# Altium schematic symbol library Converter_DCDC.SchLib: 947 symbols (part 5 of 12)
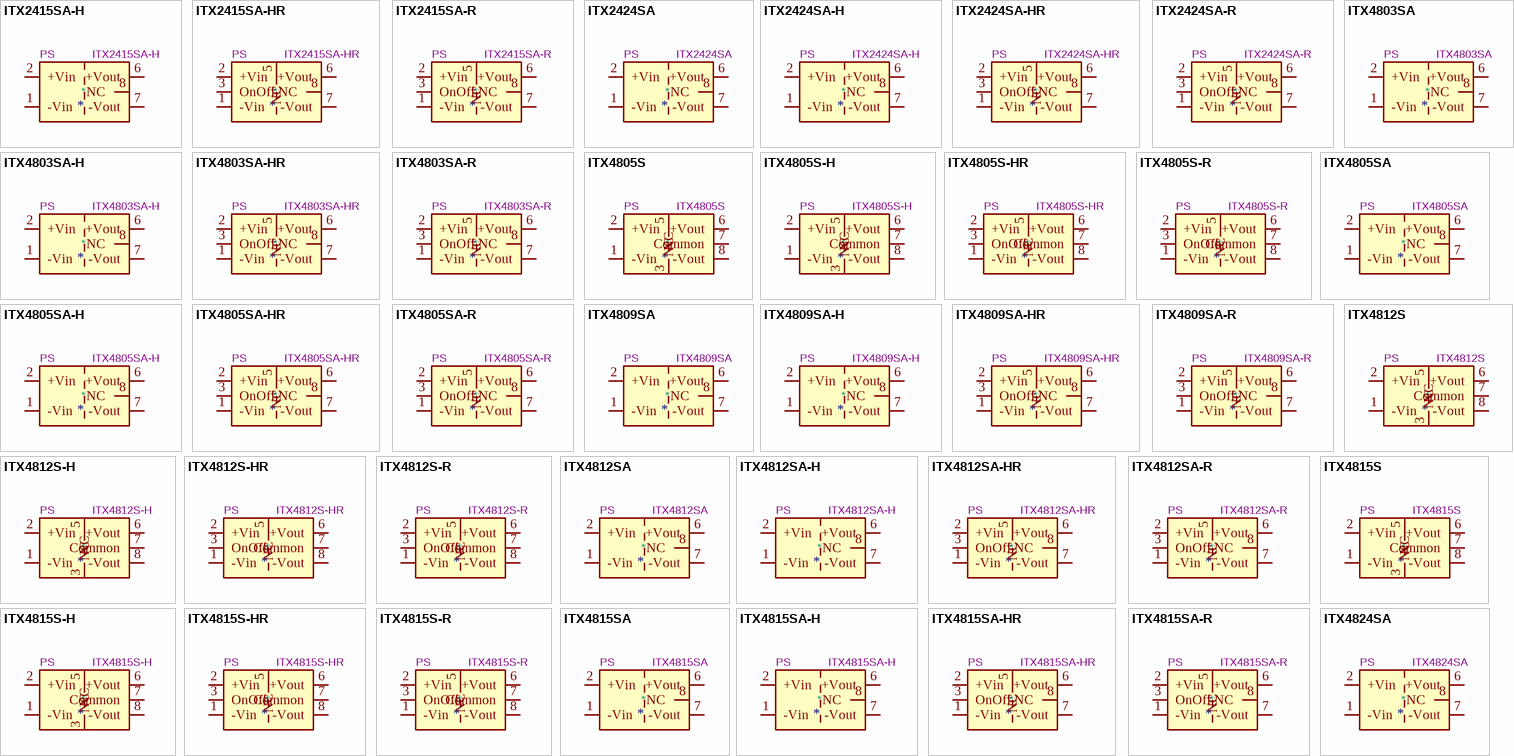
[diagram p27: symbols ITX2415SA-H to ITX4824SA]

## ITX4812SA
designator *  value ITX4812SA  Reference: PS
XP Power 6W, 1000 VDC Isolated DC/DC Converter Module, Fully Regulated Single Output Voltage 12V, ±500mA, 48V Input Voltage, SIP; ki_keywords: XP_POWER DC/DC isolated Converter module; ki_fp_filters: *XP?POWER?ITXxxxxSA*; Footprint: Converter_DCDC:Converter_DCDC_XP_POWER-ITXxxxxSA_THT; Datasheet: https://www.xppower.com/pdfs/SF_ITX.pdf; Description_: XP Power 6W, 1000 VDC Isolated DC/DC Converter Module, Fully Regulated Single Output Voltage 12V, ±500mA, 48V Input Voltage, SIP
pins: 1 -Vin, 2 +Vin, 6 +Vout, 7 -Vout, 8 NC

## ITX4812SA-H
designator *  value ITX4812SA-H  Reference: PS
XP Power 6W, 3000 VDC Isolated DC/DC Converter Module, Fully Regulated Single Output Voltage 12V, ±500mA, 48V Input Voltage, SIP; ki_keywords: XP_POWER DC/DC isolated Converter module; ki_fp_filters: *XP?POWER?ITXxxxxSA*; Footprint: Converter_DCDC:Converter_DCDC_XP_POWER-ITXxxxxSA_THT; Datasheet: https://www.xppower.com/pdfs/SF_ITX.pdf; Description_: XP Power 6W, 3000 VDC Isolated DC/DC Converter Module, Fully Regulated Single Output Voltage 12V, ±500mA, 48V Input Voltage, SIP
pins: 1 -Vin, 2 +Vin, 6 +Vout, 7 -Vout, 8 NC

## ITX4812SA-HR
designator *  value ITX4812SA-HR  Reference: PS
XP Power 6W, 3000 VDC Isolated DC/DC Converter Module, Remote Control, Fully Regulated Single Output Voltage 12V, ±500mA, 48V Input Voltage, SIP; ki_keywords: XP_POWER DC/DC isolated Converter module; ki_fp_filters: *XP?POWER?ITxxxxx*; Footprint: Converter_DCDC:Converter_DCDC_XP_POWER-ITxxxxxS_THT; Datasheet: https://www.xppower.com/pdfs/SF_ITX.pdf; Description_: XP Power 6W, 3000 VDC Isolated DC/DC Converter Module, Remote Control, Fully Regulated Single Output Voltage 12V, ±500mA, 48V Input Voltage, SIP
pins: 1 -Vin, 2 +Vin, 3 OnOff, 5 NC, 6 +Vout, 7 -Vout, 8 NC

## ITX4812SA-R
designator *  value ITX4812SA-R  Reference: PS
XP Power 6W, 1000 VDC Isolated DC/DC Converter Module, Remote Control, Fully Regulated Single Output Voltage 12V, ±500mA, 48V Input Voltage, SIP; ki_keywords: XP_POWER DC/DC isolated Converter module; ki_fp_filters: *XP?POWER?ITxxxxx*; Footprint: Converter_DCDC:Converter_DCDC_XP_POWER-ITxxxxxS_THT; Datasheet: https://www.xppower.com/pdfs/SF_ITX.pdf; Description_: XP Power 6W, 1000 VDC Isolated DC/DC Converter Module, Remote Control, Fully Regulated Single Output Voltage 12V, ±500mA, 48V Input Voltage, SIP
pins: 1 -Vin, 2 +Vin, 3 OnOff, 5 NC, 6 +Vout, 7 -Vout, 8 NC

## ITX4815S
designator *  value ITX4815S  Reference: PS
XP Power 6W, 1000 VDC Isolated DC/DC Converter Module, Fully Regulated Dual Output Voltage ±15V, ±200mA, 48V Input Voltage, SIP; ki_keywords: XP_POWER DC/DC isolated Converter module; ki_fp_filters: *XP?POWER?ITxxxxx*; Footprint: Converter_DCDC:Converter_DCDC_XP_POWER-ITxxxxxS_THT; Datasheet: https://www.xppower.com/pdfs/SF_ITX.pdf; Description_: XP Power 6W, 1000 VDC Isolated DC/DC Converter Module, Fully Regulated Dual Output Voltage ±15V, ±200mA, 48V Input Voltage, SIP
pins: 1 -Vin, 2 +Vin, 3 NC, 5 NC, 6 +Vout, 7 Common, 8 -Vout

## ITX4815S-H
designator *  value ITX4815S-H  Reference: PS
XP Power 6W, 3000 VDC Isolated DC/DC Converter Module, Fully Regulated Dual Output Voltage ±15V, ±200mA, 48V Input Voltage, SIP; ki_keywords: XP_POWER DC/DC isolated Converter module; ki_fp_filters: *XP?POWER?ITxxxxx*; Footprint: Converter_DCDC:Converter_DCDC_XP_POWER-ITxxxxxS_THT; Datasheet: https://www.xppower.com/pdfs/SF_ITX.pdf; Description_: XP Power 6W, 3000 VDC Isolated DC/DC Converter Module, Fully Regulated Dual Output Voltage ±15V, ±200mA, 48V Input Voltage, SIP
pins: 1 -Vin, 2 +Vin, 3 NC, 5 NC, 6 +Vout, 7 Common, 8 -Vout

## ITX4815S-HR
designator *  value ITX4815S-HR  Reference: PS
XP Power 6W, 3000 VDC Isolated DC/DC Converter Module, Remote Control, Fully Regulated Dual Output Voltage ±15V, ±200mA, 48V Input Voltage, SIP; ki_keywords: XP_POWER DC/DC isolated Converter module; ki_fp_filters: *XP?POWER?ITxxxxx*; Footprint: Converter_DCDC:Converter_DCDC_XP_POWER-ITxxxxxS_THT; Datasheet: https://www.xppower.com/pdfs/SF_ITX.pdf; Description_: XP Power 6W, 3000 VDC Isolated DC/DC Converter Module, Remote Control, Fully Regulated Dual Output Voltage ±15V, ±200mA, 48V Input Voltage, SIP
pins: 1 -Vin, 2 +Vin, 3 OnOff, 5 NC, 6 +Vout, 7 Common, 8 -Vout

## ITX4815S-R
designator *  value ITX4815S-R  Reference: PS
XP Power 6W, 1000 VDC Isolated DC/DC Converter Module, Remote Control, Fully Regulated Dual Output Voltage ±15V, ±200mA, 48V Input Voltage, SIP; ki_keywords: XP_POWER DC/DC isolated Converter module; ki_fp_filters: *XP?POWER?ITxxxxx*; Footprint: Converter_DCDC:Converter_DCDC_XP_POWER-ITxxxxxS_THT; Datasheet: https://www.xppower.com/pdfs/SF_ITX.pdf; Description_: XP Power 6W, 1000 VDC Isolated DC/DC Converter Module, Remote Control, Fully Regulated Dual Output Voltage ±15V, ±200mA, 48V Input Voltage, SIP
pins: 1 -Vin, 2 +Vin, 3 OnOff, 5 NC, 6 +Vout, 7 Common, 8 -Vout

## ITX4815SA
designator *  value ITX4815SA  Reference: PS
XP Power 6W, 1000 VDC Isolated DC/DC Converter Module, Fully Regulated Single Output Voltage 15V, ±400mA, 48V Input Voltage, SIP; ki_keywords: XP_POWER DC/DC isolated Converter module; ki_fp_filters: *XP?POWER?ITXxxxxSA*; Footprint: Converter_DCDC:Converter_DCDC_XP_POWER-ITXxxxxSA_THT; Datasheet: https://www.xppower.com/pdfs/SF_ITX.pdf; Description_: XP Power 6W, 1000 VDC Isolated DC/DC Converter Module, Fully Regulated Single Output Voltage 15V, ±400mA, 48V Input Voltage, SIP
pins: 1 -Vin, 2 +Vin, 6 +Vout, 7 -Vout, 8 NC

## ITX4815SA-H
designator *  value ITX4815SA-H  Reference: PS
XP Power 6W, 3000 VDC Isolated DC/DC Converter Module, Fully Regulated Single Output Voltage 15V, ±400mA, 48V Input Voltage, SIP; ki_keywords: XP_POWER DC/DC isolated Converter module; ki_fp_filters: *XP?POWER?ITXxxxxSA*; Footprint: Converter_DCDC:Converter_DCDC_XP_POWER-ITXxxxxSA_THT; Datasheet: https://www.xppower.com/pdfs/SF_ITX.pdf; Description_: XP Power 6W, 3000 VDC Isolated DC/DC Converter Module, Fully Regulated Single Output Voltage 15V, ±400mA, 48V Input Voltage, SIP
pins: 1 -Vin, 2 +Vin, 6 +Vout, 7 -Vout, 8 NC

## ITX4815SA-HR
designator *  value ITX4815SA-HR  Reference: PS
XP Power 6W, 3000 VDC Isolated DC/DC Converter Module, Remote Control, Fully Regulated Single Output Voltage 15V, ±400mA, 48V Input Voltage, SIP; ki_keywords: XP_POWER DC/DC isolated Converter module; ki_fp_filters: *XP?POWER?ITxxxxx*; Footprint: Converter_DCDC:Converter_DCDC_XP_POWER-ITxxxxxS_THT; Datasheet: https://www.xppower.com/pdfs/SF_ITX.pdf; Description_: XP Power 6W, 3000 VDC Isolated DC/DC Converter Module, Remote Control, Fully Regulated Single Output Voltage 15V, ±400mA, 48V Input Voltage, SIP
pins: 1 -Vin, 2 +Vin, 3 OnOff, 5 NC, 6 +Vout, 7 -Vout, 8 NC

## ITX4815SA-R
designator *  value ITX4815SA-R  Reference: PS
XP Power 6W, 1000 VDC Isolated DC/DC Converter Module, Remote Control, Fully Regulated Single Output Voltage 15V, ±400mA, 48V Input Voltage, SIP; ki_keywords: XP_POWER DC/DC isolated Converter module; ki_fp_filters: *XP?POWER?ITxxxxx*; Footprint: Converter_DCDC:Converter_DCDC_XP_POWER-ITxxxxxS_THT; Datasheet: https://www.xppower.com/pdfs/SF_ITX.pdf; Description_: XP Power 6W, 1000 VDC Isolated DC/DC Converter Module, Remote Control, Fully Regulated Single Output Voltage 15V, ±400mA, 48V Input Voltage, SIP
pins: 1 -Vin, 2 +Vin, 3 OnOff, 5 NC, 6 +Vout, 7 -Vout, 8 NC

## ITX4824SA
designator *  value ITX4824SA  Reference: PS
XP Power 6W, 1000 VDC Isolated DC/DC Converter Module, Fully Regulated Single Output Voltage 24V, ±250mA, 48V Input Voltage, SIP; ki_keywords: XP_POWER DC/DC isolated Converter module; ki_fp_filters: *XP?POWER?ITXxxxxSA*; Footprint: Converter_DCDC:Converter_DCDC_XP_POWER-ITXxxxxSA_THT; Datasheet: https://www.xppower.com/pdfs/SF_ITX.pdf; Description_: XP Power 6W, 1000 VDC Isolated DC/DC Converter Module, Fully Regulated Single Output Voltage 24V, ±250mA, 48V Input Voltage, SIP
pins: 1 -Vin, 2 +Vin, 6 +Vout, 7 -Vout, 8 NC

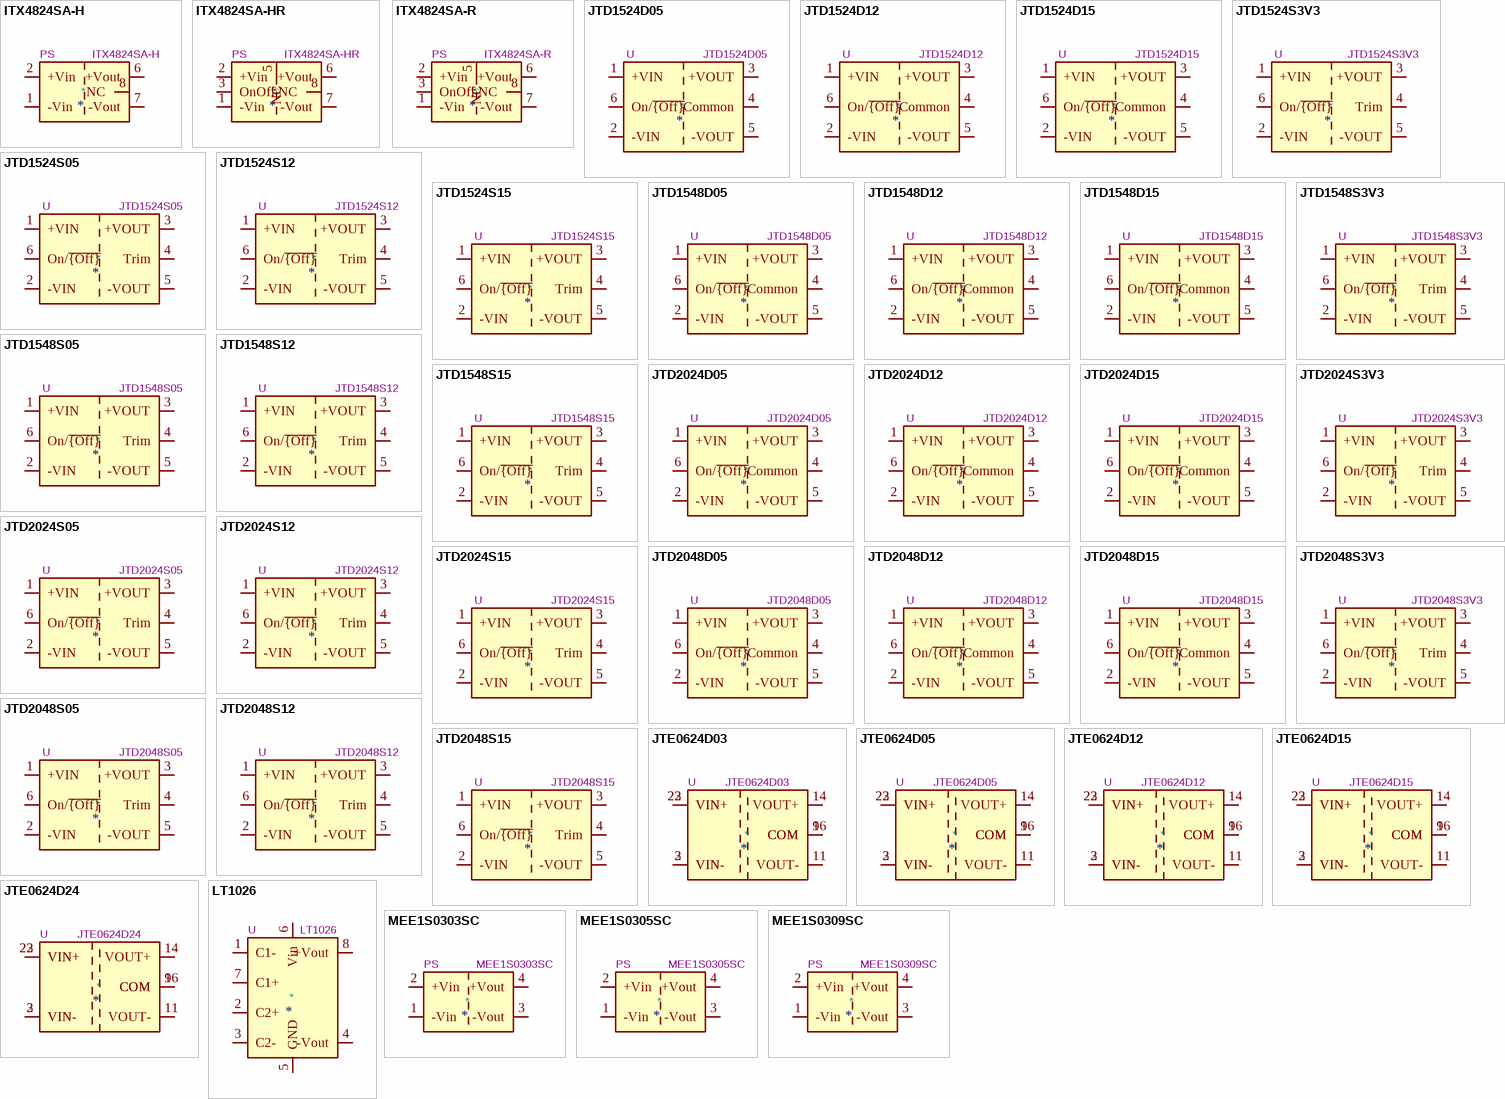
[diagram p9: symbols ITX4824SA-H to MEE1S0309SC]

## ITX4824SA-H
designator *  value ITX4824SA-H  Reference: PS
XP Power 6W, 3000 VDC Isolated DC/DC Converter Module, Fully Regulated Single Output Voltage 24V, ±250mA, 48V Input Voltage, SIP; ki_keywords: XP_POWER DC/DC isolated Converter module; ki_fp_filters: *XP?POWER?ITXxxxxSA*; Footprint: Converter_DCDC:Converter_DCDC_XP_POWER-ITXxxxxSA_THT; Datasheet: https://www.xppower.com/pdfs/SF_ITX.pdf; Description_: XP Power 6W, 3000 VDC Isolated DC/DC Converter Module, Fully Regulated Single Output Voltage 24V, ±250mA, 48V Input Voltage, SIP
pins: 1 -Vin, 2 +Vin, 6 +Vout, 7 -Vout, 8 NC

## ITX4824SA-HR
designator *  value ITX4824SA-HR  Reference: PS
XP Power 6W, 3000 VDC Isolated DC/DC Converter Module, Remote Control, Fully Regulated Single Output Voltage 24V, ±250mA, 48V Input Voltage, SIP; ki_keywords: XP_POWER DC/DC isolated Converter module; ki_fp_filters: *XP?POWER?ITxxxxx*; Footprint: Converter_DCDC:Converter_DCDC_XP_POWER-ITxxxxxS_THT; Datasheet: https://www.xppower.com/pdfs/SF_ITX.pdf; Description_: XP Power 6W, 3000 VDC Isolated DC/DC Converter Module, Remote Control, Fully Regulated Single Output Voltage 24V, ±250mA, 48V Input Voltage, SIP
pins: 1 -Vin, 2 +Vin, 3 OnOff, 5 NC, 6 +Vout, 7 -Vout, 8 NC

## ITX4824SA-R
designator *  value ITX4824SA-R  Reference: PS
XP Power 6W, 1000 VDC Isolated DC/DC Converter Module, Remote Control, Fully Regulated Single Output Voltage 24V, ±250mA, 48V Input Voltage, SIP; ki_keywords: XP_POWER DC/DC isolated Converter module; ki_fp_filters: *XP?POWER?ITxxxxx*; Footprint: Converter_DCDC:Converter_DCDC_XP_POWER-ITxxxxxS_THT; Datasheet: https://www.xppower.com/pdfs/SF_ITX.pdf; Description_: XP Power 6W, 1000 VDC Isolated DC/DC Converter Module, Remote Control, Fully Regulated Single Output Voltage 24V, ±250mA, 48V Input Voltage, SIP
pins: 1 -Vin, 2 +Vin, 3 OnOff, 5 NC, 6 +Vout, 7 -Vout, 8 NC

## JTD1524D05
designator *  value JTD1524D05  Reference: U
Isolated 15W 4:1 input DC/DC converter module, 9-36V input voltage, ±5V output voltage, DIP; ki_keywords: isolated isolation dc-dc converter step-down dual; ki_fp_filters: Converter*DCDC*XP?POWER*JTDxxxxxxx*; Footprint: Converter_DCDC:Converter_DCDC_XP_POWER_JTDxxxxxxx_THT; Datasheet: https://www.xppower.com/portals/0/pdfs/SF_JTD15.pdf; Description_: Isolated 15W 4:1 input DC/DC converter module, 9-36V input voltage, ±5V output voltage, DIP
pins: 1 +VIN, 2 -VIN, 3 +VOUT, 4 Common, 5 -VOUT, 6 On/~{{Off}}

## JTD1524D12
designator *  value JTD1524D12  Reference: U
Isolated 15W 4:1 input DC/DC converter module, 9-36V input voltage, ±12V output voltage, DIP; ki_keywords: isolated isolation dc-dc converter step-down dual; ki_fp_filters: Converter*DCDC*XP?POWER*JTDxxxxxxx*; Footprint: Converter_DCDC:Converter_DCDC_XP_POWER_JTDxxxxxxx_THT; Datasheet: https://www.xppower.com/portals/0/pdfs/SF_JTD15.pdf; Description_: Isolated 15W 4:1 input DC/DC converter module, 9-36V input voltage, ±12V output voltage, DIP
pins: 1 +VIN, 2 -VIN, 3 +VOUT, 4 Common, 5 -VOUT, 6 On/~{{Off}}

## JTD1524D15
designator *  value JTD1524D15  Reference: U
Isolated 15W 4:1 input DC/DC converter module, 9-36V input voltage, ±15V output voltage, DIP; ki_keywords: isolated isolation dc-dc converter step-down dual; ki_fp_filters: Converter*DCDC*XP?POWER*JTDxxxxxxx*; Footprint: Converter_DCDC:Converter_DCDC_XP_POWER_JTDxxxxxxx_THT; Datasheet: https://www.xppower.com/portals/0/pdfs/SF_JTD15.pdf; Description_: Isolated 15W 4:1 input DC/DC converter module, 9-36V input voltage, ±15V output voltage, DIP
pins: 1 +VIN, 2 -VIN, 3 +VOUT, 4 Common, 5 -VOUT, 6 On/~{{Off}}

## JTD1524S3V3
designator *  value JTD1524S3V3  Reference: U
Isolated 15W 4:1 input DC/DC converter module, 9-36V input voltage, 3.3V output voltage, DIP; ki_keywords: isolated isolation dc-dc converter step-down; ki_fp_filters: Converter*DCDC*XP?POWER*JTDxxxxxxx*; Footprint: Converter_DCDC:Converter_DCDC_XP_POWER_JTDxxxxxxx_THT; Datasheet: https://www.xppower.com/portals/0/pdfs/SF_JTD15.pdf; Description_: Isolated 15W 4:1 input DC/DC converter module, 9-36V input voltage, 3.3V output voltage, DIP
pins: 1 +VIN, 2 -VIN, 3 +VOUT, 4 Trim, 5 -VOUT, 6 On/~{{Off}}

## JTD1524S05
designator *  value JTD1524S05  Reference: U
Isolated 15W 4:1 input DC/DC converter module, 9-36V input voltage, 5V output voltage, DIP; ki_keywords: isolated isolation dc-dc converter step-down; ki_fp_filters: Converter*DCDC*XP?POWER*JTDxxxxxxx*; Footprint: Converter_DCDC:Converter_DCDC_XP_POWER_JTDxxxxxxx_THT; Datasheet: https://www.xppower.com/portals/0/pdfs/SF_JTD15.pdf; Description_: Isolated 15W 4:1 input DC/DC converter module, 9-36V input voltage, 5V output voltage, DIP
pins: 1 +VIN, 2 -VIN, 3 +VOUT, 4 Trim, 5 -VOUT, 6 On/~{{Off}}

## JTD1524S12
designator *  value JTD1524S12  Reference: U
Isolated 15W 4:1 input DC/DC converter module, 9-36V input voltage, 12V output voltage, DIP; ki_keywords: isolated isolation dc-dc converter step-down; ki_fp_filters: Converter*DCDC*XP?POWER*JTDxxxxxxx*; Footprint: Converter_DCDC:Converter_DCDC_XP_POWER_JTDxxxxxxx_THT; Datasheet: https://www.xppower.com/portals/0/pdfs/SF_JTD15.pdf; Description_: Isolated 15W 4:1 input DC/DC converter module, 9-36V input voltage, 12V output voltage, DIP
pins: 1 +VIN, 2 -VIN, 3 +VOUT, 4 Trim, 5 -VOUT, 6 On/~{{Off}}

## JTD1524S15
designator *  value JTD1524S15  Reference: U
Isolated 15W 4:1 input DC/DC converter module, 9-36V input voltage, 15V output voltage, DIP; ki_keywords: isolated isolation dc-dc converter step-down; ki_fp_filters: Converter*DCDC*XP?POWER*JTDxxxxxxx*; Footprint: Converter_DCDC:Converter_DCDC_XP_POWER_JTDxxxxxxx_THT; Datasheet: https://www.xppower.com/portals/0/pdfs/SF_JTD15.pdf; Description_: Isolated 15W 4:1 input DC/DC converter module, 9-36V input voltage, 15V output voltage, DIP
pins: 1 +VIN, 2 -VIN, 3 +VOUT, 4 Trim, 5 -VOUT, 6 On/~{{Off}}

## JTD1548D05
designator *  value JTD1548D05  Reference: U
Isolated 15W 4:1 input DC/DC converter module, 18-75V input voltage, ±5V output voltage, DIP; ki_keywords: isolated isolation dc-dc converter step-down dual; ki_fp_filters: Converter*DCDC*XP?POWER*JTDxxxxxxx*; Footprint: Converter_DCDC:Converter_DCDC_XP_POWER_JTDxxxxxxx_THT; Datasheet: https://www.xppower.com/portals/0/pdfs/SF_JTD15.pdf; Description_: Isolated 15W 4:1 input DC/DC converter module, 18-75V input voltage, ±5V output voltage, DIP
pins: 1 +VIN, 2 -VIN, 3 +VOUT, 4 Common, 5 -VOUT, 6 On/~{{Off}}

## JTD1548D12
designator *  value JTD1548D12  Reference: U
Isolated 15W 4:1 input DC/DC converter module, 18-75V input voltage, ±12V output voltage, DIP; ki_keywords: isolated isolation dc-dc converter step-down dual; ki_fp_filters: Converter*DCDC*XP?POWER*JTDxxxxxxx*; Footprint: Converter_DCDC:Converter_DCDC_XP_POWER_JTDxxxxxxx_THT; Datasheet: https://www.xppower.com/portals/0/pdfs/SF_JTD15.pdf; Description_: Isolated 15W 4:1 input DC/DC converter module, 18-75V input voltage, ±12V output voltage, DIP
pins: 1 +VIN, 2 -VIN, 3 +VOUT, 4 Common, 5 -VOUT, 6 On/~{{Off}}

## JTD1548D15
designator *  value JTD1548D15  Reference: U
Isolated 15W 4:1 input DC/DC converter module, 18-75V input voltage, ±15V output voltage, DIP; ki_keywords: isolated isolation dc-dc converter step-down dual; ki_fp_filters: Converter*DCDC*XP?POWER*JTDxxxxxxx*; Footprint: Converter_DCDC:Converter_DCDC_XP_POWER_JTDxxxxxxx_THT; Datasheet: https://www.xppower.com/portals/0/pdfs/SF_JTD15.pdf; Description_: Isolated 15W 4:1 input DC/DC converter module, 18-75V input voltage, ±15V output voltage, DIP
pins: 1 +VIN, 2 -VIN, 3 +VOUT, 4 Common, 5 -VOUT, 6 On/~{{Off}}

## JTD1548S3V3
designator *  value JTD1548S3V3  Reference: U
Isolated 15W 4:1 input DC/DC converter module, 18-75V input voltage, 3.3V output voltage, DIP; ki_keywords: isolated isolation dc-dc converter step-down; ki_fp_filters: Converter*DCDC*XP?POWER*JTDxxxxxxx*; Footprint: Converter_DCDC:Converter_DCDC_XP_POWER_JTDxxxxxxx_THT; Datasheet: https://www.xppower.com/portals/0/pdfs/SF_JTD15.pdf; Description_: Isolated 15W 4:1 input DC/DC converter module, 18-75V input voltage, 3.3V output voltage, DIP
pins: 1 +VIN, 2 -VIN, 3 +VOUT, 4 Trim, 5 -VOUT, 6 On/~{{Off}}

## JTD1548S05
designator *  value JTD1548S05  Reference: U
Isolated 15W 4:1 input DC/DC converter module, 18-75V input voltage, 5V output voltage, DIP; ki_keywords: isolated isolation dc-dc converter step-down; ki_fp_filters: Converter*DCDC*XP?POWER*JTDxxxxxxx*; Footprint: Converter_DCDC:Converter_DCDC_XP_POWER_JTDxxxxxxx_THT; Datasheet: https://www.xppower.com/portals/0/pdfs/SF_JTD15.pdf; Description_: Isolated 15W 4:1 input DC/DC converter module, 18-75V input voltage, 5V output voltage, DIP
pins: 1 +VIN, 2 -VIN, 3 +VOUT, 4 Trim, 5 -VOUT, 6 On/~{{Off}}

## JTD1548S12
designator *  value JTD1548S12  Reference: U
Isolated 15W 4:1 input DC/DC converter module, 18-75V input voltage, 12V output voltage, DIP; ki_keywords: isolated isolation dc-dc converter step-down; ki_fp_filters: Converter*DCDC*XP?POWER*JTDxxxxxxx*; Footprint: Converter_DCDC:Converter_DCDC_XP_POWER_JTDxxxxxxx_THT; Datasheet: https://www.xppower.com/portals/0/pdfs/SF_JTD15.pdf; Description_: Isolated 15W 4:1 input DC/DC converter module, 18-75V input voltage, 12V output voltage, DIP
pins: 1 +VIN, 2 -VIN, 3 +VOUT, 4 Trim, 5 -VOUT, 6 On/~{{Off}}

## JTD1548S15
designator *  value JTD1548S15  Reference: U
Isolated 15W 4:1 input DC/DC converter module, 18-75V input voltage, 15V output voltage, DIP; ki_keywords: isolated isolation dc-dc converter step-down; ki_fp_filters: Converter*DCDC*XP?POWER*JTDxxxxxxx*; Footprint: Converter_DCDC:Converter_DCDC_XP_POWER_JTDxxxxxxx_THT; Datasheet: https://www.xppower.com/portals/0/pdfs/SF_JTD15.pdf; Description_: Isolated 15W 4:1 input DC/DC converter module, 18-75V input voltage, 15V output voltage, DIP
pins: 1 +VIN, 2 -VIN, 3 +VOUT, 4 Trim, 5 -VOUT, 6 On/~{{Off}}

## JTD2024D05
designator *  value JTD2024D05  Reference: U
Isolated 20W 4:1 input DC/DC converter module, 9-36V input voltage, ±5V output voltage, DIP; ki_keywords: isolated isolation dc-dc converter step-down dual; ki_fp_filters: Converter*DCDC*XP?POWER*JTDxxxxxxx*; Footprint: Converter_DCDC:Converter_DCDC_XP_POWER_JTDxxxxxxx_THT; Datasheet: https://www.xppower.com/portals/0/pdfs/SF_JTD20.pdf; Description_: Isolated 20W 4:1 input DC/DC converter module, 9-36V input voltage, ±5V output voltage, DIP
pins: 1 +VIN, 2 -VIN, 3 +VOUT, 4 Common, 5 -VOUT, 6 On/~{{Off}}

## JTD2024D12
designator *  value JTD2024D12  Reference: U
Isolated 20W 4:1 input DC/DC converter module, 9-36V input voltage, ±12V output voltage, DIP; ki_keywords: isolated isolation dc-dc converter step-down dual; ki_fp_filters: Converter*DCDC*XP?POWER*JTDxxxxxxx*; Footprint: Converter_DCDC:Converter_DCDC_XP_POWER_JTDxxxxxxx_THT; Datasheet: https://www.xppower.com/portals/0/pdfs/SF_JTD20.pdf; Description_: Isolated 20W 4:1 input DC/DC converter module, 9-36V input voltage, ±12V output voltage, DIP
pins: 1 +VIN, 2 -VIN, 3 +VOUT, 4 Common, 5 -VOUT, 6 On/~{{Off}}

## JTD2024D15
designator *  value JTD2024D15  Reference: U
Isolated 20W 4:1 input DC/DC converter module, 9-36V input voltage, ±15V output voltage, DIP; ki_keywords: isolated isolation dc-dc converter step-down dual; ki_fp_filters: Converter*DCDC*XP?POWER*JTDxxxxxxx*; Footprint: Converter_DCDC:Converter_DCDC_XP_POWER_JTDxxxxxxx_THT; Datasheet: https://www.xppower.com/portals/0/pdfs/SF_JTD20.pdf; Description_: Isolated 20W 4:1 input DC/DC converter module, 9-36V input voltage, ±15V output voltage, DIP
pins: 1 +VIN, 2 -VIN, 3 +VOUT, 4 Common, 5 -VOUT, 6 On/~{{Off}}

## JTD2024S3V3
designator *  value JTD2024S3V3  Reference: U
Isolated 20W 4:1 input DC/DC converter module, 9-36V input voltage, 3.3V output voltage, DIP; ki_keywords: isolated isolation dc-dc converter step-down; ki_fp_filters: Converter*DCDC*XP?POWER*JTDxxxxxxx*; Footprint: Converter_DCDC:Converter_DCDC_XP_POWER_JTDxxxxxxx_THT; Datasheet: https://www.xppower.com/portals/0/pdfs/SF_JTD20.pdf; Description_: Isolated 20W 4:1 input DC/DC converter module, 9-36V input voltage, 3.3V output voltage, DIP
pins: 1 +VIN, 2 -VIN, 3 +VOUT, 4 Trim, 5 -VOUT, 6 On/~{{Off}}

## JTD2024S05
designator *  value JTD2024S05  Reference: U
Isolated 20W 4:1 input DC/DC converter module, 9-36V input voltage, 5V output voltage, DIP; ki_keywords: isolated isolation dc-dc converter step-down; ki_fp_filters: Converter*DCDC*XP?POWER*JTDxxxxxxx*; Footprint: Converter_DCDC:Converter_DCDC_XP_POWER_JTDxxxxxxx_THT; Datasheet: https://www.xppower.com/portals/0/pdfs/SF_JTD20.pdf; Description_: Isolated 20W 4:1 input DC/DC converter module, 9-36V input voltage, 5V output voltage, DIP
pins: 1 +VIN, 2 -VIN, 3 +VOUT, 4 Trim, 5 -VOUT, 6 On/~{{Off}}

## JTD2024S12
designator *  value JTD2024S12  Reference: U
Isolated 20W 4:1 input DC/DC converter module, 9-36V input voltage, 12V output voltage, DIP; ki_keywords: isolated isolation dc-dc converter step-down; ki_fp_filters: Converter*DCDC*XP?POWER*JTDxxxxxxx*; Footprint: Converter_DCDC:Converter_DCDC_XP_POWER_JTDxxxxxxx_THT; Datasheet: https://www.xppower.com/portals/0/pdfs/SF_JTD20.pdf; Description_: Isolated 20W 4:1 input DC/DC converter module, 9-36V input voltage, 12V output voltage, DIP
pins: 1 +VIN, 2 -VIN, 3 +VOUT, 4 Trim, 5 -VOUT, 6 On/~{{Off}}

## JTD2024S15
designator *  value JTD2024S15  Reference: U
Isolated 20W 4:1 input DC/DC converter module, 9-36V input voltage, 15V output voltage, DIP; ki_keywords: isolated isolation dc-dc converter step-down; ki_fp_filters: Converter*DCDC*XP?POWER*JTDxxxxxxx*; Footprint: Converter_DCDC:Converter_DCDC_XP_POWER_JTDxxxxxxx_THT; Datasheet: https://www.xppower.com/portals/0/pdfs/SF_JTD20.pdf; Description_: Isolated 20W 4:1 input DC/DC converter module, 9-36V input voltage, 15V output voltage, DIP
pins: 1 +VIN, 2 -VIN, 3 +VOUT, 4 Trim, 5 -VOUT, 6 On/~{{Off}}

## JTD2048D05
designator *  value JTD2048D05  Reference: U
Isolated 20W 4:1 input DC/DC converter module, 18-75V input voltage, ±5V output voltage, DIP; ki_keywords: isolated isolation dc-dc converter step-down dual; ki_fp_filters: Converter*DCDC*XP?POWER*JTDxxxxxxx*; Footprint: Converter_DCDC:Converter_DCDC_XP_POWER_JTDxxxxxxx_THT; Datasheet: https://www.xppower.com/portals/0/pdfs/SF_JTD20.pdf; Description_: Isolated 20W 4:1 input DC/DC converter module, 18-75V input voltage, ±5V output voltage, DIP
pins: 1 +VIN, 2 -VIN, 3 +VOUT, 4 Common, 5 -VOUT, 6 On/~{{Off}}

## JTD2048D12
designator *  value JTD2048D12  Reference: U
Isolated 20W 4:1 input DC/DC converter module, 18-75V input voltage, ±12V output voltage, DIP; ki_keywords: isolated isolation dc-dc converter step-down dual; ki_fp_filters: Converter*DCDC*XP?POWER*JTDxxxxxxx*; Footprint: Converter_DCDC:Converter_DCDC_XP_POWER_JTDxxxxxxx_THT; Datasheet: https://www.xppower.com/portals/0/pdfs/SF_JTD20.pdf; Description_: Isolated 20W 4:1 input DC/DC converter module, 18-75V input voltage, ±12V output voltage, DIP
pins: 1 +VIN, 2 -VIN, 3 +VOUT, 4 Common, 5 -VOUT, 6 On/~{{Off}}

## JTD2048D15
designator *  value JTD2048D15  Reference: U
Isolated 20W 4:1 input DC/DC converter module, 18-75V input voltage, ±15V output voltage, DIP; ki_keywords: isolated isolation dc-dc converter step-down dual; ki_fp_filters: Converter*DCDC*XP?POWER*JTDxxxxxxx*; Footprint: Converter_DCDC:Converter_DCDC_XP_POWER_JTDxxxxxxx_THT; Datasheet: https://www.xppower.com/portals/0/pdfs/SF_JTD20.pdf; Description_: Isolated 20W 4:1 input DC/DC converter module, 18-75V input voltage, ±15V output voltage, DIP
pins: 1 +VIN, 2 -VIN, 3 +VOUT, 4 Common, 5 -VOUT, 6 On/~{{Off}}

## JTD2048S3V3
designator *  value JTD2048S3V3  Reference: U
Isolated 20W 4:1 input DC/DC converter module, 18-75V input voltage, 3.3V output voltage, DIP; ki_keywords: isolated isolation dc-dc converter step-down; ki_fp_filters: Converter*DCDC*XP?POWER*JTDxxxxxxx*; Footprint: Converter_DCDC:Converter_DCDC_XP_POWER_JTDxxxxxxx_THT; Datasheet: https://www.xppower.com/portals/0/pdfs/SF_JTD20.pdf; Description_: Isolated 20W 4:1 input DC/DC converter module, 18-75V input voltage, 3.3V output voltage, DIP
pins: 1 +VIN, 2 -VIN, 3 +VOUT, 4 Trim, 5 -VOUT, 6 On/~{{Off}}

## JTD2048S05
designator *  value JTD2048S05  Reference: U
Isolated 20W 4:1 input DC/DC converter module, 18-75V input voltage, 5V output voltage, DIP; ki_keywords: isolated isolation dc-dc converter step-down; ki_fp_filters: Converter*DCDC*XP?POWER*JTDxxxxxxx*; Footprint: Converter_DCDC:Converter_DCDC_XP_POWER_JTDxxxxxxx_THT; Datasheet: https://www.xppower.com/portals/0/pdfs/SF_JTD20.pdf; Description_: Isolated 20W 4:1 input DC/DC converter module, 18-75V input voltage, 5V output voltage, DIP
pins: 1 +VIN, 2 -VIN, 3 +VOUT, 4 Trim, 5 -VOUT, 6 On/~{{Off}}

## JTD2048S12
designator *  value JTD2048S12  Reference: U
Isolated 20W 4:1 input DC/DC converter module, 18-75V input voltage, 12V output voltage, DIP; ki_keywords: isolated isolation dc-dc converter step-down; ki_fp_filters: Converter*DCDC*XP?POWER*JTDxxxxxxx*; Footprint: Converter_DCDC:Converter_DCDC_XP_POWER_JTDxxxxxxx_THT; Datasheet: https://www.xppower.com/portals/0/pdfs/SF_JTD20.pdf; Description_: Isolated 20W 4:1 input DC/DC converter module, 18-75V input voltage, 12V output voltage, DIP
pins: 1 +VIN, 2 -VIN, 3 +VOUT, 4 Trim, 5 -VOUT, 6 On/~{{Off}}

## JTD2048S15
designator *  value JTD2048S15  Reference: U
Isolated 20W 4:1 input DC/DC converter module, 18-75V input voltage, 15V output voltage, DIP; ki_keywords: isolated isolation dc-dc converter step-down; ki_fp_filters: Converter*DCDC*XP?POWER*JTDxxxxxxx*; Footprint: Converter_DCDC:Converter_DCDC_XP_POWER_JTDxxxxxxx_THT; Datasheet: https://www.xppower.com/portals/0/pdfs/SF_JTD20.pdf; Description_: Isolated 20W 4:1 input DC/DC converter module, 18-75V input voltage, 15V output voltage, DIP
pins: 1 +VIN, 2 -VIN, 3 +VOUT, 4 Trim, 5 -VOUT, 6 On/~{{Off}}

## JTE0624D03
designator *  value JTE0624D03  Reference: U
XP Power 6W Isolated DC/DC Converter Module, Dual Output Voltage ±3.3V, 9-36V Input Voltage; ki_keywords: XP_POWER isolated DC/DC Converter module; ki_fp_filters: *XP?POWER*JTExxxxDxx*; Footprint: Converter_DCDC:Converter_DCDC_XP_POWER_JTExxxxDxx_THT; Datasheet: https://www.xppower.com/Portals/0/pdfs/SF_JTE06.pdf; Description_: XP Power 6W Isolated DC/DC Converter Module, Dual Output Voltage ±3.3V, 9-36V Input Voltage
pins: 2 VIN-, 3 VIN-, 9 COM, 11 VOUT-, 14 VOUT+, 16 COM, 22 VIN+, 23 VIN+

## JTE0624D05
designator *  value JTE0624D05  Reference: U
XP Power 6W Isolated DC/DC Converter Module, Dual Output Voltage ±5V, 9-36V Input Voltage; ki_keywords: XP_POWER isolated DC/DC Converter module; ki_fp_filters: *XP?POWER*JTExxxxDxx*; Footprint: Converter_DCDC:Converter_DCDC_XP_POWER_JTExxxxDxx_THT; Datasheet: https://www.xppower.com/Portals/0/pdfs/SF_JTE06.pdf; Description_: XP Power 6W Isolated DC/DC Converter Module, Dual Output Voltage ±5V, 9-36V Input Voltage
pins: 2 VIN-, 3 VIN-, 9 COM, 11 VOUT-, 14 VOUT+, 16 COM, 22 VIN+, 23 VIN+

## JTE0624D12
designator *  value JTE0624D12  Reference: U
XP Power 6W Isolated DC/DC Converter Module, Dual Output Voltage ±12V, 9-36V Input Voltage; ki_keywords: XP_POWER isolated DC/DC Converter module; ki_fp_filters: *XP?POWER*JTExxxxDxx*; Footprint: Converter_DCDC:Converter_DCDC_XP_POWER_JTExxxxDxx_THT; Datasheet: https://www.xppower.com/Portals/0/pdfs/SF_JTE06.pdf; Description_: XP Power 6W Isolated DC/DC Converter Module, Dual Output Voltage ±12V, 9-36V Input Voltage
pins: 2 VIN-, 3 VIN-, 9 COM, 11 VOUT-, 14 VOUT+, 16 COM, 22 VIN+, 23 VIN+

## JTE0624D15
designator *  value JTE0624D15  Reference: U
XP Power 6W Isolated DC/DC Converter Module, Dual Output Voltage ±15V, 9-36V Input Voltage; ki_keywords: XP_POWER isolated DC/DC Converter module; ki_fp_filters: *XP?POWER*JTExxxxDxx*; Footprint: Converter_DCDC:Converter_DCDC_XP_POWER_JTExxxxDxx_THT; Datasheet: https://www.xppower.com/Portals/0/pdfs/SF_JTE06.pdf; Description_: XP Power 6W Isolated DC/DC Converter Module, Dual Output Voltage ±15V, 9-36V Input Voltage
pins: 2 VIN-, 3 VIN-, 9 COM, 11 VOUT-, 14 VOUT+, 16 COM, 22 VIN+, 23 VIN+

## JTE0624D24
designator *  value JTE0624D24  Reference: U
XP Power 6W Isolated DC/DC Converter Module, Dual Output Voltage ±24V, 9-36V Input Voltage; ki_keywords: XP_POWER isolated DC/DC Converter module; ki_fp_filters: *XP?POWER*JTExxxxDxx*; Footprint: Converter_DCDC:Converter_DCDC_XP_POWER_JTExxxxDxx_THT; Datasheet: https://www.xppower.com/Portals/0/pdfs/SF_JTE06.pdf; Description_: XP Power 6W Isolated DC/DC Converter Module, Dual Output Voltage ±24V, 9-36V Input Voltage
pins: 2 VIN-, 3 VIN-, 9 COM, 11 VOUT-, 14 VOUT+, 16 COM, 22 VIN+, 23 VIN+

## LT1026
designator *  value LT1026  Reference: U
voltage doubler and inverter; ki_keywords: monolithic switched capacitor voltage doubler inverter; ki_fp_filters: DIP*W7.62mm* SOIC*3.9x4.9mm*P1.27mm*; Datasheet: https://www.analog.com/media/en/technical-documentation/data-sheets/1026fb.pdf; Description_: voltage doubler and inverter
pins: 1 C1-, 2 C2+, 3 C2-, 4 -Vout, 5 GND, 6 Vin, 7 C1+, 8 +Vout

## MEE1S0303SC
designator *  value MEE1S0303SC  Reference: PS
1W, 1000 VDC isolated DC/DC converter, 3V3 input, 3V3 output, SIP; ki_keywords: murata DC/DC isolated converter; ki_fp_filters: Converter*DCDC*Murata*MEE1SxxxxSC*THT*; Footprint: Converter_DCDC:Converter_DCDC_Murata_MEE1SxxxxSC_THT; Datasheet: https://power.murata.com/pub/data/power/ncl/kdc_mee1.pdf; Description_: 1W, 1000 VDC isolated DC/DC converter, 3V3 input, 3V3 output, SIP
pins: 1 -Vin, 2 +Vin, 3 -Vout, 4 +Vout

## MEE1S0305SC
designator *  value MEE1S0305SC  Reference: PS
1W, 1000 VDC isolated DC/DC converter, 3V3 input, 5V output, SIP; ki_keywords: murata DC/DC isolated converter; ki_fp_filters: Converter*DCDC*Murata*MEE1SxxxxSC*THT*; Footprint: Converter_DCDC:Converter_DCDC_Murata_MEE1SxxxxSC_THT; Datasheet: https://power.murata.com/pub/data/power/ncl/kdc_mee1.pdf; Description_: 1W, 1000 VDC isolated DC/DC converter, 3V3 input, 5V output, SIP
pins: 1 -Vin, 2 +Vin, 3 -Vout, 4 +Vout

## MEE1S0309SC
designator *  value MEE1S0309SC  Reference: PS
1W, 1000 VDC isolated DC/DC converter, 3V3 input, 9V output, SIP; ki_keywords: murata DC/DC isolated converter; ki_fp_filters: Converter*DCDC*Murata*MEE1SxxxxSC*THT*; Footprint: Converter_DCDC:Converter_DCDC_Murata_MEE1SxxxxSC_THT; Datasheet: https://power.murata.com/pub/data/power/ncl/kdc_mee1.pdf; Description_: 1W, 1000 VDC isolated DC/DC converter, 3V3 input, 9V output, SIP
pins: 1 -Vin, 2 +Vin, 3 -Vout, 4 +Vout

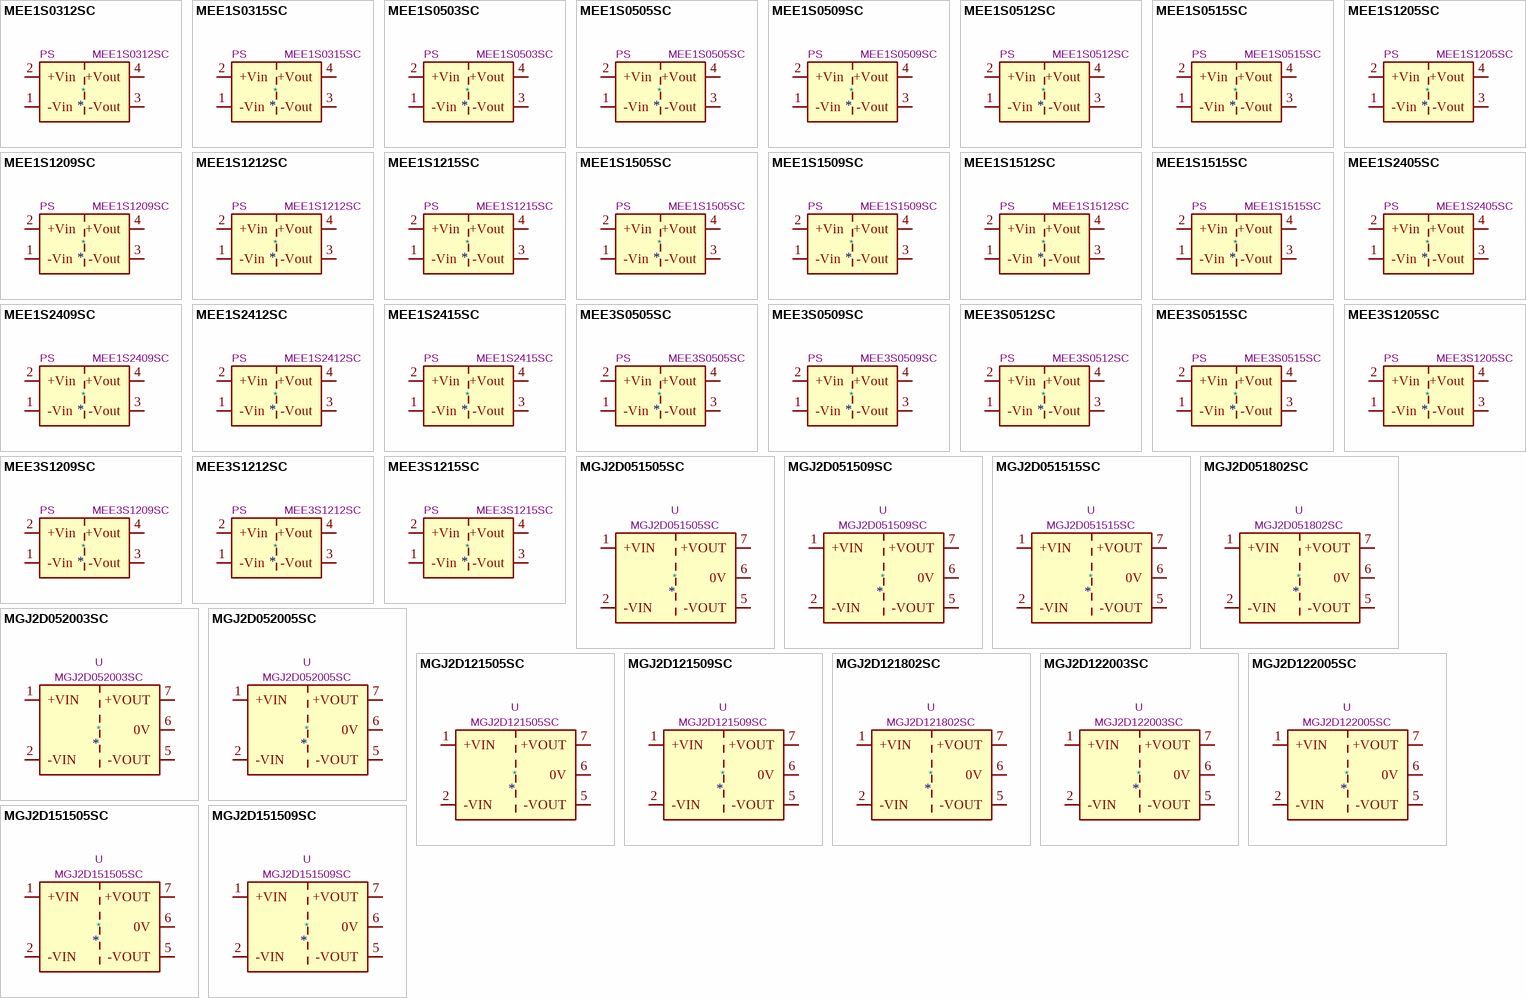
[diagram p10: symbols MEE1S0312SC to MGJ2D151509SC]

## MEE1S0312SC
designator *  value MEE1S0312SC  Reference: PS
1W, 1000 VDC isolated DC/DC converter, 3V3 input, 12V output, SIP; ki_keywords: murata DC/DC isolated converter; ki_fp_filters: Converter*DCDC*Murata*MEE1SxxxxSC*THT*; Footprint: Converter_DCDC:Converter_DCDC_Murata_MEE1SxxxxSC_THT; Datasheet: https://power.murata.com/pub/data/power/ncl/kdc_mee1.pdf; Description_: 1W, 1000 VDC isolated DC/DC converter, 3V3 input, 12V output, SIP
pins: 1 -Vin, 2 +Vin, 3 -Vout, 4 +Vout

## MEE1S0315SC
designator *  value MEE1S0315SC  Reference: PS
1W, 1000 VDC isolated DC/DC converter, 3V3 input, 15V output, SIP; ki_keywords: murata DC/DC isolated converter; ki_fp_filters: Converter*DCDC*Murata*MEE1SxxxxSC*THT*; Footprint: Converter_DCDC:Converter_DCDC_Murata_MEE1SxxxxSC_THT; Datasheet: https://power.murata.com/pub/data/power/ncl/kdc_mee1.pdf; Description_: 1W, 1000 VDC isolated DC/DC converter, 3V3 input, 15V output, SIP
pins: 1 -Vin, 2 +Vin, 3 -Vout, 4 +Vout

## MEE1S0503SC
designator *  value MEE1S0503SC  Reference: PS
1W, 1000 VDC isolated DC/DC converter, 5V input, 3V3 output, SIP; ki_keywords: murata DC/DC isolated converter; ki_fp_filters: Converter*DCDC*Murata*MEE1SxxxxSC*THT*; Footprint: Converter_DCDC:Converter_DCDC_Murata_MEE1SxxxxSC_THT; Datasheet: https://power.murata.com/pub/data/power/ncl/kdc_mee1.pdf; Description_: 1W, 1000 VDC isolated DC/DC converter, 5V input, 3V3 output, SIP
pins: 1 -Vin, 2 +Vin, 3 -Vout, 4 +Vout

## MEE1S0505SC
designator *  value MEE1S0505SC  Reference: PS
1W, 1000 VDC isolated DC/DC converter, 5V input, 5V output, SIP; ki_keywords: murata DC/DC isolated converter; ki_fp_filters: Converter*DCDC*Murata*MEE1SxxxxSC*THT*; Footprint: Converter_DCDC:Converter_DCDC_Murata_MEE1SxxxxSC_THT; Datasheet: https://power.murata.com/pub/data/power/ncl/kdc_mee1.pdf; Description_: 1W, 1000 VDC isolated DC/DC converter, 5V input, 5V output, SIP
pins: 1 -Vin, 2 +Vin, 3 -Vout, 4 +Vout

## MEE1S0509SC
designator *  value MEE1S0509SC  Reference: PS
1W, 1000 VDC isolated DC/DC converter, 5V input, 9V output, SIP; ki_keywords: murata DC/DC isolated converter; ki_fp_filters: Converter*DCDC*Murata*MEE1SxxxxSC*THT*; Footprint: Converter_DCDC:Converter_DCDC_Murata_MEE1SxxxxSC_THT; Datasheet: https://power.murata.com/pub/data/power/ncl/kdc_mee1.pdf; Description_: 1W, 1000 VDC isolated DC/DC converter, 5V input, 9V output, SIP
pins: 1 -Vin, 2 +Vin, 3 -Vout, 4 +Vout

## MEE1S0512SC
designator *  value MEE1S0512SC  Reference: PS
1W, 1000 VDC isolated DC/DC converter, 5V input, 12V output, SIP; ki_keywords: murata DC/DC isolated converter; ki_fp_filters: Converter*DCDC*Murata*MEE1SxxxxSC*THT*; Footprint: Converter_DCDC:Converter_DCDC_Murata_MEE1SxxxxSC_THT; Datasheet: https://power.murata.com/pub/data/power/ncl/kdc_mee1.pdf; Description_: 1W, 1000 VDC isolated DC/DC converter, 5V input, 12V output, SIP
pins: 1 -Vin, 2 +Vin, 3 -Vout, 4 +Vout

## MEE1S0515SC
designator *  value MEE1S0515SC  Reference: PS
1W, 1000 VDC isolated DC/DC converter, 5V input, 15V output, SIP; ki_keywords: murata DC/DC isolated converter; ki_fp_filters: Converter*DCDC*Murata*MEE1SxxxxSC*THT*; Footprint: Converter_DCDC:Converter_DCDC_Murata_MEE1SxxxxSC_THT; Datasheet: https://power.murata.com/pub/data/power/ncl/kdc_mee1.pdf; Description_: 1W, 1000 VDC isolated DC/DC converter, 5V input, 15V output, SIP
pins: 1 -Vin, 2 +Vin, 3 -Vout, 4 +Vout

## MEE1S1205SC
designator *  value MEE1S1205SC  Reference: PS
1W, 1000 VDC isolated DC/DC converter, 12V input, 5V output, SIP; ki_keywords: murata DC/DC isolated converter; ki_fp_filters: Converter*DCDC*Murata*MEE1SxxxxSC*THT*; Footprint: Converter_DCDC:Converter_DCDC_Murata_MEE1SxxxxSC_THT; Datasheet: https://power.murata.com/pub/data/power/ncl/kdc_mee1.pdf; Description_: 1W, 1000 VDC isolated DC/DC converter, 12V input, 5V output, SIP
pins: 1 -Vin, 2 +Vin, 3 -Vout, 4 +Vout

## MEE1S1209SC
designator *  value MEE1S1209SC  Reference: PS
1W, 1000 VDC isolated DC/DC converter, 12V input, 9V output, SIP; ki_keywords: murata DC/DC isolated converter; ki_fp_filters: Converter*DCDC*Murata*MEE1SxxxxSC*THT*; Footprint: Converter_DCDC:Converter_DCDC_Murata_MEE1SxxxxSC_THT; Datasheet: https://power.murata.com/pub/data/power/ncl/kdc_mee1.pdf; Description_: 1W, 1000 VDC isolated DC/DC converter, 12V input, 9V output, SIP
pins: 1 -Vin, 2 +Vin, 3 -Vout, 4 +Vout

## MEE1S1212SC
designator *  value MEE1S1212SC  Reference: PS
1W, 1000 VDC isolated DC/DC converter, 12V input, 12V output, SIP; ki_keywords: murata DC/DC isolated converter; ki_fp_filters: Converter*DCDC*Murata*MEE1SxxxxSC*THT*; Footprint: Converter_DCDC:Converter_DCDC_Murata_MEE1SxxxxSC_THT; Datasheet: https://power.murata.com/pub/data/power/ncl/kdc_mee1.pdf; Description_: 1W, 1000 VDC isolated DC/DC converter, 12V input, 12V output, SIP
pins: 1 -Vin, 2 +Vin, 3 -Vout, 4 +Vout

## MEE1S1215SC
designator *  value MEE1S1215SC  Reference: PS
1W, 1000 VDC isolated DC/DC converter, 12V input, 15V output, SIP; ki_keywords: murata DC/DC isolated converter; ki_fp_filters: Converter*DCDC*Murata*MEE1SxxxxSC*THT*; Footprint: Converter_DCDC:Converter_DCDC_Murata_MEE1SxxxxSC_THT; Datasheet: https://power.murata.com/pub/data/power/ncl/kdc_mee1.pdf; Description_: 1W, 1000 VDC isolated DC/DC converter, 12V input, 15V output, SIP
pins: 1 -Vin, 2 +Vin, 3 -Vout, 4 +Vout

## MEE1S1505SC
designator *  value MEE1S1505SC  Reference: PS
1W, 1000 VDC isolated DC/DC converter, 15V input, 5V output, SIP; ki_keywords: murata DC/DC isolated converter; ki_fp_filters: Converter*DCDC*Murata*MEE1SxxxxSC*THT*; Footprint: Converter_DCDC:Converter_DCDC_Murata_MEE1SxxxxSC_THT; Datasheet: https://power.murata.com/pub/data/power/ncl/kdc_mee1.pdf; Description_: 1W, 1000 VDC isolated DC/DC converter, 15V input, 5V output, SIP
pins: 1 -Vin, 2 +Vin, 3 -Vout, 4 +Vout

## MEE1S1509SC
designator *  value MEE1S1509SC  Reference: PS
1W, 1000 VDC isolated DC/DC converter, 15V input, 9V output, SIP; ki_keywords: murata DC/DC isolated converter; ki_fp_filters: Converter*DCDC*Murata*MEE1SxxxxSC*THT*; Footprint: Converter_DCDC:Converter_DCDC_Murata_MEE1SxxxxSC_THT; Datasheet: https://power.murata.com/pub/data/power/ncl/kdc_mee1.pdf; Description_: 1W, 1000 VDC isolated DC/DC converter, 15V input, 9V output, SIP
pins: 1 -Vin, 2 +Vin, 3 -Vout, 4 +Vout

## MEE1S1512SC
designator *  value MEE1S1512SC  Reference: PS
1W, 1000 VDC isolated DC/DC converter, 15V input, 12V output, SIP; ki_keywords: murata DC/DC isolated converter; ki_fp_filters: Converter*DCDC*Murata*MEE1SxxxxSC*THT*; Footprint: Converter_DCDC:Converter_DCDC_Murata_MEE1SxxxxSC_THT; Datasheet: https://power.murata.com/pub/data/power/ncl/kdc_mee1.pdf; Description_: 1W, 1000 VDC isolated DC/DC converter, 15V input, 12V output, SIP
pins: 1 -Vin, 2 +Vin, 3 -Vout, 4 +Vout

## MEE1S1515SC
designator *  value MEE1S1515SC  Reference: PS
1W, 1000 VDC isolated DC/DC converter, 15V input, 15V output, SIP; ki_keywords: murata DC/DC isolated converter; ki_fp_filters: Converter*DCDC*Murata*MEE1SxxxxSC*THT*; Footprint: Converter_DCDC:Converter_DCDC_Murata_MEE1SxxxxSC_THT; Datasheet: https://power.murata.com/pub/data/power/ncl/kdc_mee1.pdf; Description_: 1W, 1000 VDC isolated DC/DC converter, 15V input, 15V output, SIP
pins: 1 -Vin, 2 +Vin, 3 -Vout, 4 +Vout

## MEE1S2405SC
designator *  value MEE1S2405SC  Reference: PS
1W, 1000 VDC isolated DC/DC converter, 24V input, 5V output, SIP; ki_keywords: murata DC/DC isolated converter; ki_fp_filters: Converter*DCDC*Murata*MEE1SxxxxSC*THT*; Footprint: Converter_DCDC:Converter_DCDC_Murata_MEE1SxxxxSC_THT; Datasheet: https://power.murata.com/pub/data/power/ncl/kdc_mee1.pdf; Description_: 1W, 1000 VDC isolated DC/DC converter, 24V input, 5V output, SIP
pins: 1 -Vin, 2 +Vin, 3 -Vout, 4 +Vout

## MEE1S2409SC
designator *  value MEE1S2409SC  Reference: PS
1W, 1000 VDC isolated DC/DC converter, 24V input, 9V output, SIP; ki_keywords: murata DC/DC isolated converter; ki_fp_filters: Converter*DCDC*Murata*MEE1SxxxxSC*THT*; Footprint: Converter_DCDC:Converter_DCDC_Murata_MEE1SxxxxSC_THT; Datasheet: https://power.murata.com/pub/data/power/ncl/kdc_mee1.pdf; Description_: 1W, 1000 VDC isolated DC/DC converter, 24V input, 9V output, SIP
pins: 1 -Vin, 2 +Vin, 3 -Vout, 4 +Vout

## MEE1S2412SC
designator *  value MEE1S2412SC  Reference: PS
1W, 1000 VDC isolated DC/DC converter, 24V input, 12V output, SIP; ki_keywords: murata DC/DC isolated converter; ki_fp_filters: Converter*DCDC*Murata*MEE1SxxxxSC*THT*; Footprint: Converter_DCDC:Converter_DCDC_Murata_MEE1SxxxxSC_THT; Datasheet: https://power.murata.com/pub/data/power/ncl/kdc_mee1.pdf; Description_: 1W, 1000 VDC isolated DC/DC converter, 24V input, 12V output, SIP
pins: 1 -Vin, 2 +Vin, 3 -Vout, 4 +Vout

## MEE1S2415SC
designator *  value MEE1S2415SC  Reference: PS
1W, 1000 VDC isolated DC/DC converter, 24V input, 15V output, SIP; ki_keywords: murata DC/DC isolated converter; ki_fp_filters: Converter*DCDC*Murata*MEE1SxxxxSC*THT*; Footprint: Converter_DCDC:Converter_DCDC_Murata_MEE1SxxxxSC_THT; Datasheet: https://power.murata.com/pub/data/power/ncl/kdc_mee1.pdf; Description_: 1W, 1000 VDC isolated DC/DC converter, 24V input, 15V output, SIP
pins: 1 -Vin, 2 +Vin, 3 -Vout, 4 +Vout

## MEE3S0505SC
designator *  value MEE3S0505SC  Reference: PS
3W, 1000 VDC isolated DC/DC converter, 5V input, 5V output, SIP; ki_keywords: murata DC/DC isolated converter; ki_fp_filters: Converter*DCDC*Murata*MEE3SxxxxSC*THT*; Footprint: Converter_DCDC:Converter_DCDC_Murata_MEE3SxxxxSC_THT; Datasheet: https://power.murata.com/pub/data/power/ncl/kdc_mee3.pdf; Description_: 3W, 1000 VDC isolated DC/DC converter, 5V input, 5V output, SIP
pins: 1 -Vin, 2 +Vin, 3 -Vout, 4 +Vout

## MEE3S0509SC
designator *  value MEE3S0509SC  Reference: PS
3W, 1000 VDC isolated DC/DC converter, 5V input, 9V output, SIP; ki_keywords: murata DC/DC isolated converter; ki_fp_filters: Converter*DCDC*Murata*MEE3SxxxxSC*THT*; Footprint: Converter_DCDC:Converter_DCDC_Murata_MEE3SxxxxSC_THT; Datasheet: https://power.murata.com/pub/data/power/ncl/kdc_mee3.pdf; Description_: 3W, 1000 VDC isolated DC/DC converter, 5V input, 9V output, SIP
pins: 1 -Vin, 2 +Vin, 3 -Vout, 4 +Vout

## MEE3S0512SC
designator *  value MEE3S0512SC  Reference: PS
3W, 1000 VDC isolated DC/DC converter, 5V input, 12V output, SIP; ki_keywords: murata DC/DC isolated converter; ki_fp_filters: Converter*DCDC*Murata*MEE3SxxxxSC*THT*; Footprint: Converter_DCDC:Converter_DCDC_Murata_MEE3SxxxxSC_THT; Datasheet: https://power.murata.com/pub/data/power/ncl/kdc_mee3.pdf; Description_: 3W, 1000 VDC isolated DC/DC converter, 5V input, 12V output, SIP
pins: 1 -Vin, 2 +Vin, 3 -Vout, 4 +Vout

## MEE3S0515SC
designator *  value MEE3S0515SC  Reference: PS
3W, 1000 VDC isolated DC/DC converter, 5V input, 15V output, SIP; ki_keywords: murata DC/DC isolated converter; ki_fp_filters: Converter*DCDC*Murata*MEE3SxxxxSC*THT*; Footprint: Converter_DCDC:Converter_DCDC_Murata_MEE3SxxxxSC_THT; Datasheet: https://power.murata.com/pub/data/power/ncl/kdc_mee3.pdf; Description_: 3W, 1000 VDC isolated DC/DC converter, 5V input, 15V output, SIP
pins: 1 -Vin, 2 +Vin, 3 -Vout, 4 +Vout

## MEE3S1205SC
designator *  value MEE3S1205SC  Reference: PS
3W, 1000 VDC isolated DC/DC converter, 12V input, 5V output, SIP; ki_keywords: murata DC/DC isolated converter; ki_fp_filters: Converter*DCDC*Murata*MEE3SxxxxSC*THT*; Footprint: Converter_DCDC:Converter_DCDC_Murata_MEE3SxxxxSC_THT; Datasheet: https://power.murata.com/pub/data/power/ncl/kdc_mee3.pdf; Description_: 3W, 1000 VDC isolated DC/DC converter, 12V input, 5V output, SIP
pins: 1 -Vin, 2 +Vin, 3 -Vout, 4 +Vout

## MEE3S1209SC
designator *  value MEE3S1209SC  Reference: PS
3W, 1000 VDC isolated DC/DC converter, 12V input, 9V output, SIP; ki_keywords: murata DC/DC isolated converter; ki_fp_filters: Converter*DCDC*Murata*MEE3SxxxxSC*THT*; Footprint: Converter_DCDC:Converter_DCDC_Murata_MEE3SxxxxSC_THT; Datasheet: https://power.murata.com/pub/data/power/ncl/kdc_mee3.pdf; Description_: 3W, 1000 VDC isolated DC/DC converter, 12V input, 9V output, SIP
pins: 1 -Vin, 2 +Vin, 3 -Vout, 4 +Vout

## MEE3S1212SC
designator *  value MEE3S1212SC  Reference: PS
3W, 1000 VDC isolated DC/DC converter, 12V input, 12V output, SIP; ki_keywords: murata DC/DC isolated converter; ki_fp_filters: Converter*DCDC*Murata*MEE3SxxxxSC*THT*; Footprint: Converter_DCDC:Converter_DCDC_Murata_MEE3SxxxxSC_THT; Datasheet: https://power.murata.com/pub/data/power/ncl/kdc_mee3.pdf; Description_: 3W, 1000 VDC isolated DC/DC converter, 12V input, 12V output, SIP
pins: 1 -Vin, 2 +Vin, 3 -Vout, 4 +Vout

## MEE3S1215SC
designator *  value MEE3S1215SC  Reference: PS
3W, 1000 VDC isolated DC/DC converter, 12V input, 15V output, SIP; ki_keywords: murata DC/DC isolated converter; ki_fp_filters: Converter*DCDC*Murata*MEE3SxxxxSC*THT*; Footprint: Converter_DCDC:Converter_DCDC_Murata_MEE3SxxxxSC_THT; Datasheet: https://power.murata.com/pub/data/power/ncl/kdc_mee3.pdf; Description_: 3W, 1000 VDC isolated DC/DC converter, 12V input, 15V output, SIP
pins: 1 -Vin, 2 +Vin, 3 -Vout, 4 +Vout

## MGJ2D051505SC
designator *  value MGJ2D051505SC  Reference: U
5.2kVDC Isolated 2W Gate Drive, 5V Vin, +15V/-5V Vout; ki_keywords: DC/DC converter; ki_fp_filters: Converter*DCDC*Murata*MGJ2DxxxxxxSC*; Footprint: Converter_DCDC:Converter_DCDC_Murata_MGJ2DxxxxxxSC_THT; Datasheet: https://power.murata.com/pub/data/power/ncl/kdc_mgj2.pdf; Description_: 5.2kVDC Isolated 2W Gate Drive, 5V Vin, +15V/-5V Vout
pins: 1 +VIN, 2 -VIN, 5 -VOUT, 6 0V, 7 +VOUT

## MGJ2D051509SC
designator *  value MGJ2D051509SC  Reference: U
5.2kVDC Isolated 2W Gate Drive, 5V Vin, +15V/-8.7V Vout; ki_keywords: DC/DC converter; ki_fp_filters: Converter*DCDC*Murata*MGJ2DxxxxxxSC*; Footprint: Converter_DCDC:Converter_DCDC_Murata_MGJ2DxxxxxxSC_THT; Datasheet: https://power.murata.com/pub/data/power/ncl/kdc_mgj2.pdf; Description_: 5.2kVDC Isolated 2W Gate Drive, 5V Vin, +15V/-8.7V Vout
pins: 1 +VIN, 2 -VIN, 5 -VOUT, 6 0V, 7 +VOUT

## MGJ2D051515SC
designator *  value MGJ2D051515SC  Reference: U
5.2kVDC Isolated 2W Gate Drive, 5V Vin, +15V/-15V Vout; ki_keywords: DC/DC converter; ki_fp_filters: Converter*DCDC*Murata*MGJ2DxxxxxxSC*; Footprint: Converter_DCDC:Converter_DCDC_Murata_MGJ2DxxxxxxSC_THT; Datasheet: https://power.murata.com/pub/data/power/ncl/kdc_mgj2.pdf; Description_: 5.2kVDC Isolated 2W Gate Drive, 5V Vin, +15V/-15V Vout
pins: 1 +VIN, 2 -VIN, 5 -VOUT, 6 0V, 7 +VOUT

## MGJ2D051802SC
designator *  value MGJ2D051802SC  Reference: U
5.2kVDC Isolated 2W Gate Drive, 5V Vin, +18V/-2.5V Vout; ki_keywords: DC/DC converter; ki_fp_filters: Converter*DCDC*Murata*MGJ2DxxxxxxSC*; Footprint: Converter_DCDC:Converter_DCDC_Murata_MGJ2DxxxxxxSC_THT; Datasheet: https://power.murata.com/pub/data/power/ncl/kdc_mgj2.pdf; Description_: 5.2kVDC Isolated 2W Gate Drive, 5V Vin, +18V/-2.5V Vout
pins: 1 +VIN, 2 -VIN, 5 -VOUT, 6 0V, 7 +VOUT

## MGJ2D052003SC
designator *  value MGJ2D052003SC  Reference: U
5.2kVDC Isolated 2W Gate Drive, 5V Vin, +20V/-3.5V Vout; ki_keywords: DC/DC converter; ki_fp_filters: Converter*DCDC*Murata*MGJ2DxxxxxxSC*; Footprint: Converter_DCDC:Converter_DCDC_Murata_MGJ2DxxxxxxSC_THT; Datasheet: https://power.murata.com/pub/data/power/ncl/kdc_mgj2.pdf; Description_: 5.2kVDC Isolated 2W Gate Drive, 5V Vin, +20V/-3.5V Vout
pins: 1 +VIN, 2 -VIN, 5 -VOUT, 6 0V, 7 +VOUT

## MGJ2D052005SC
designator *  value MGJ2D052005SC  Reference: U
5.2kVDC Isolated 2W Gate Drive, 5V Vin, +20V/-5V Vout; ki_keywords: DC/DC converter; ki_fp_filters: Converter*DCDC*Murata*MGJ2DxxxxxxSC*; Footprint: Converter_DCDC:Converter_DCDC_Murata_MGJ2DxxxxxxSC_THT; Datasheet: https://power.murata.com/pub/data/power/ncl/kdc_mgj2.pdf; Description_: 5.2kVDC Isolated 2W Gate Drive, 5V Vin, +20V/-5V Vout
pins: 1 +VIN, 2 -VIN, 5 -VOUT, 6 0V, 7 +VOUT

## MGJ2D121505SC
designator *  value MGJ2D121505SC  Reference: U
5.2kVDC Isolated 2W Gate Drive, 12V Vin, +15V/-5V Vout; ki_keywords: DC/DC converter; ki_fp_filters: Converter*DCDC*Murata*MGJ2DxxxxxxSC*; Footprint: Converter_DCDC:Converter_DCDC_Murata_MGJ2DxxxxxxSC_THT; Datasheet: https://power.murata.com/pub/data/power/ncl/kdc_mgj2.pdf; Description_: 5.2kVDC Isolated 2W Gate Drive, 12V Vin, +15V/-5V Vout
pins: 1 +VIN, 2 -VIN, 5 -VOUT, 6 0V, 7 +VOUT

## MGJ2D121509SC
designator *  value MGJ2D121509SC  Reference: U
5.2kVDC Isolated 2W Gate Drive, 12V Vin, +15V/-8.7V Vout; ki_keywords: DC/DC converter; ki_fp_filters: Converter*DCDC*Murata*MGJ2DxxxxxxSC*; Footprint: Converter_DCDC:Converter_DCDC_Murata_MGJ2DxxxxxxSC_THT; Datasheet: https://power.murata.com/pub/data/power/ncl/kdc_mgj2.pdf; Description_: 5.2kVDC Isolated 2W Gate Drive, 12V Vin, +15V/-8.7V Vout
pins: 1 +VIN, 2 -VIN, 5 -VOUT, 6 0V, 7 +VOUT

## MGJ2D121802SC
designator *  value MGJ2D121802SC  Reference: U
5.2kVDC Isolated 2W Gate Drive, 12V Vin, +18V/-2.5V Vout; ki_keywords: DC/DC converter; ki_fp_filters: Converter*DCDC*Murata*MGJ2DxxxxxxSC*; Footprint: Converter_DCDC:Converter_DCDC_Murata_MGJ2DxxxxxxSC_THT; Datasheet: https://power.murata.com/pub/data/power/ncl/kdc_mgj2.pdf; Description_: 5.2kVDC Isolated 2W Gate Drive, 12V Vin, +18V/-2.5V Vout
pins: 1 +VIN, 2 -VIN, 5 -VOUT, 6 0V, 7 +VOUT

## MGJ2D122003SC
designator *  value MGJ2D122003SC  Reference: U
5.2kVDC Isolated 2W Gate Drive, 12V Vin, +18V/-3.5V Vout; ki_keywords: DC/DC converter; ki_fp_filters: Converter*DCDC*Murata*MGJ2DxxxxxxSC*; Footprint: Converter_DCDC:Converter_DCDC_Murata_MGJ2DxxxxxxSC_THT; Datasheet: https://power.murata.com/pub/data/power/ncl/kdc_mgj2.pdf; Description_: 5.2kVDC Isolated 2W Gate Drive, 12V Vin, +18V/-3.5V Vout
pins: 1 +VIN, 2 -VIN, 5 -VOUT, 6 0V, 7 +VOUT

## MGJ2D122005SC
designator *  value MGJ2D122005SC  Reference: U
5.2kVDC Isolated 2W Gate Drive, 12V Vin, +20V/-5V Vout; ki_keywords: DC/DC converter; ki_fp_filters: Converter*DCDC*Murata*MGJ2DxxxxxxSC*; Footprint: Converter_DCDC:Converter_DCDC_Murata_MGJ2DxxxxxxSC_THT; Datasheet: https://power.murata.com/pub/data/power/ncl/kdc_mgj2.pdf; Description_: 5.2kVDC Isolated 2W Gate Drive, 12V Vin, +20V/-5V Vout
pins: 1 +VIN, 2 -VIN, 5 -VOUT, 6 0V, 7 +VOUT

## MGJ2D151505SC
designator *  value MGJ2D151505SC  Reference: U
5.2kVDC Isolated 2W Gate Drive, 15V Vin, +15V/-5V Vout; ki_keywords: DC/DC converter; ki_fp_filters: Converter*DCDC*Murata*MGJ2DxxxxxxSC*; Footprint: Converter_DCDC:Converter_DCDC_Murata_MGJ2DxxxxxxSC_THT; Datasheet: https://power.murata.com/pub/data/power/ncl/kdc_mgj2.pdf; Description_: 5.2kVDC Isolated 2W Gate Drive, 15V Vin, +15V/-5V Vout
pins: 1 +VIN, 2 -VIN, 5 -VOUT, 6 0V, 7 +VOUT

## MGJ2D151509SC
designator *  value MGJ2D151509SC  Reference: U
5.2kVDC Isolated 2W Gate Drive, 15V Vin, +15V/-8.7V Vout; ki_keywords: DC/DC converter; ki_fp_filters: Converter*DCDC*Murata*MGJ2DxxxxxxSC*; Footprint: Converter_DCDC:Converter_DCDC_Murata_MGJ2DxxxxxxSC_THT; Datasheet: https://power.murata.com/pub/data/power/ncl/kdc_mgj2.pdf; Description_: 5.2kVDC Isolated 2W Gate Drive, 15V Vin, +15V/-8.7V Vout
pins: 1 +VIN, 2 -VIN, 5 -VOUT, 6 0V, 7 +VOUT

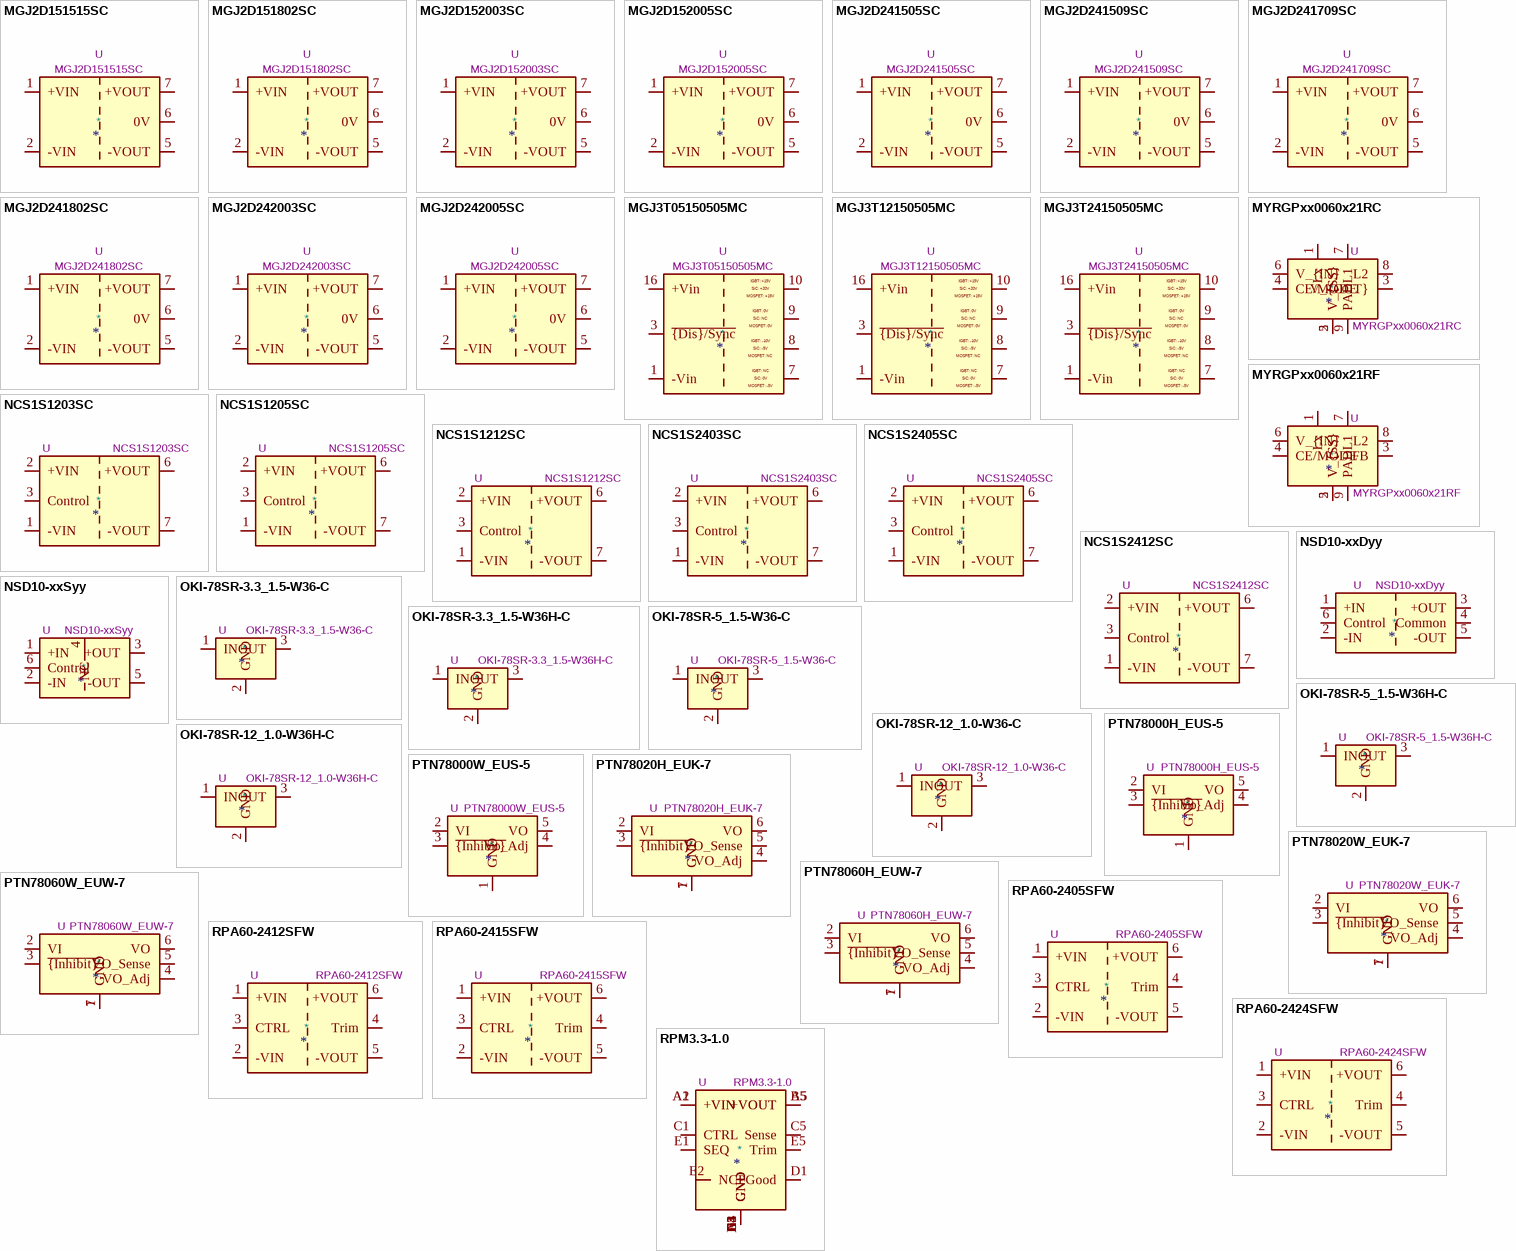
[diagram p11: symbols MGJ2D151515SC to RPM3.3-1.0]

## MGJ2D151515SC
designator *  value MGJ2D151515SC  Reference: U
5.2kVDC Isolated 2W Gate Drive, 15V Vin, +15V/-15V Vout; ki_keywords: DC/DC converter; ki_fp_filters: Converter*DCDC*Murata*MGJ2DxxxxxxSC*; Footprint: Converter_DCDC:Converter_DCDC_Murata_MGJ2DxxxxxxSC_THT; Datasheet: https://power.murata.com/pub/data/power/ncl/kdc_mgj2.pdf; Description_: 5.2kVDC Isolated 2W Gate Drive, 15V Vin, +15V/-15V Vout
pins: 1 +VIN, 2 -VIN, 5 -VOUT, 6 0V, 7 +VOUT